# Altium schematic symbol library CHK-I.SchLib: 5 symbols
Pins are listed as number, name and electrical type; pins without a type are passive.

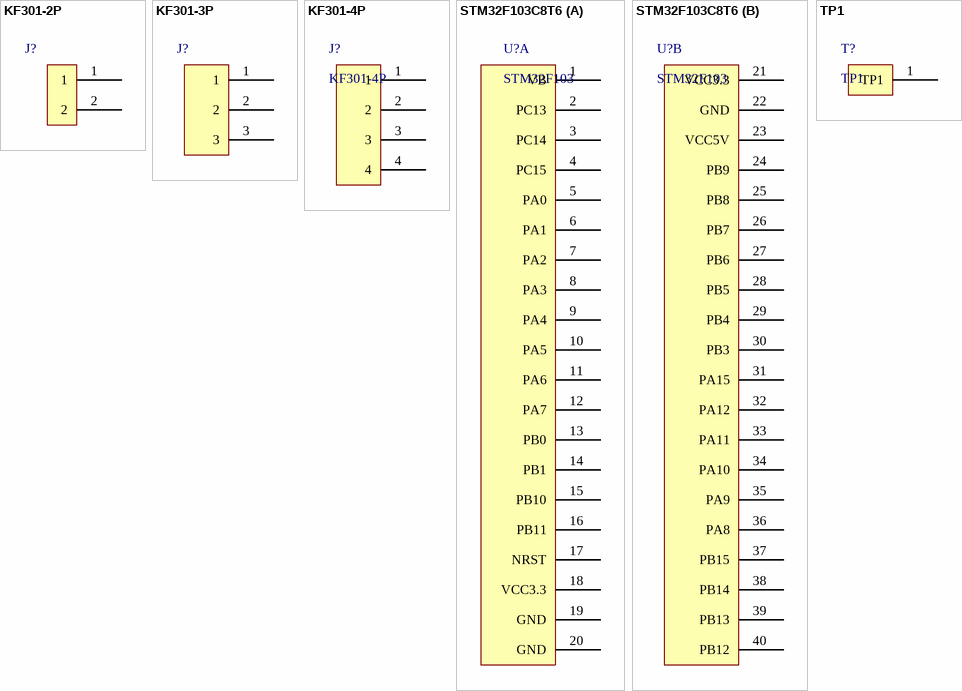
[diagram p0: symbols KF301-2P to TP1]

## KF301-2P
designator J?  (value not drawn)
footprint KF301-2P
pins: 1, 2

## KF301-3P
designator J?  (value not drawn)
footprint KF301-3P
pins: 1, 2, 3

## KF301-4P
designator J?
footprint KF301-4P
pins: 1, 2, 3, 4

## STM32F103C8T6
designator U?, comment STM32F103
footprint STM32F103C8T6
part A pins: 1 VB, 2 PC13, 3 PC14, 4 PC15, 5 PA0, 6 PA1, 7 PA2, 8 PA3, 9 PA4, 10 PA5, 11 PA6, 12 PA7, 13 PB0, 14 PB1, 15 PB10, 16 PB11, 17 NRST, 18 VCC3.3, 19 GND, 20 GND
part B pins: 21 VCC3.3, 22 GND, 23 VCC5V, 24 PB9, 25 PB8, 26 PB7, 27 PB6, 28 PB5, 29 PB4, 30 PB3, 31 PA15, 32 PA12, 33 PA11, 34 PA10, 35 PA9, 36 PA8, 37 PB15, 38 PB14, 39 PB13, 40 PB12

## TP1
designator T?
footprint TP1 (Test Point 1)
pins: 1 TP1